# Altium footprint library MolsonPCB.PcbLib: 42 footprints (part 3 of 3)
Each footprint in its own frame and in the unit in brackets; x right, y up, seen from the top. Pads: shape width x height; smd on the part's side, far side on the other; paste and mask are expansions set on the pad; w line width, h text height; cw(c..) or ccw(c..) is an arc to the next point about the centre after c.
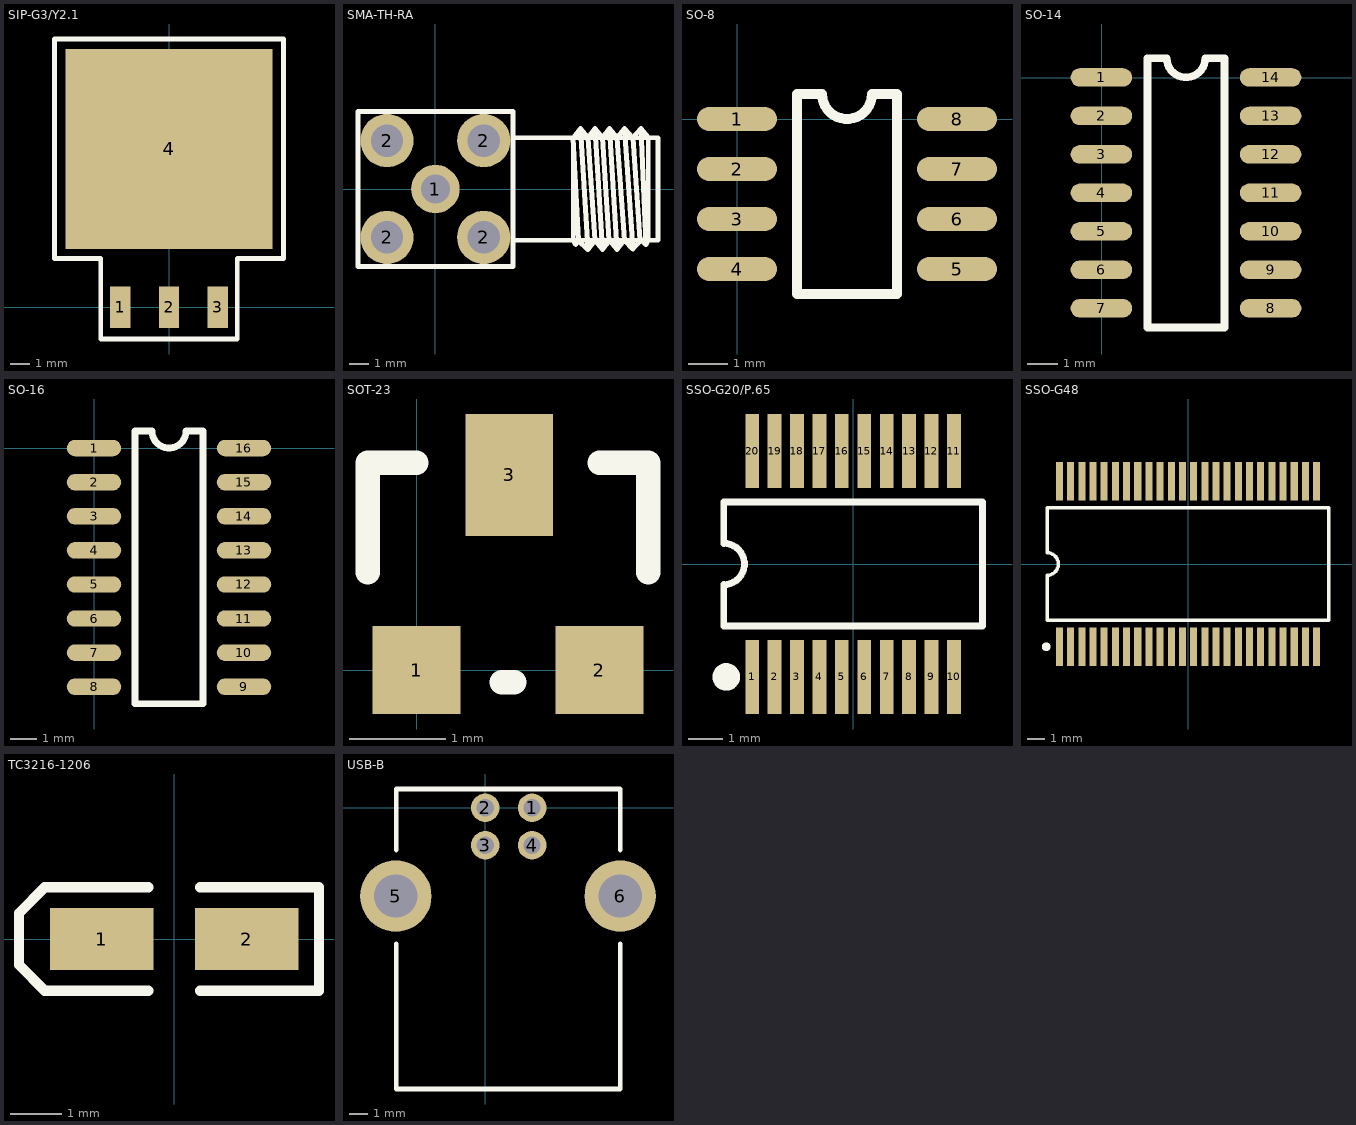
[diagram p2: the footprints below, top view; thin cyan lines are the x and y axes]

## SIP-G3/Y2.1 [mil]
pads (4):
  rect 42x85 smd: 1(-100,0) 2(0,0) 3(100,0)
  rect 425x410 smd: 4(0,325)
Top Overlay:
  lines w10: -235,100 -140,100 -140,-65 140,-65 140,100 235,100 235,550 -235,550 -235,100

## SMA-TH-RA [mil]
pads (5):
  round 100 hole 60: 1(0,0)
  round 110 hole 67: 2(-100,-100) 2(-100,100) 2(100,-100) 2(100,100)
Top Overlay:
  lines w10: 160,-106 460,-106 460,106 160,106 ; 284,106 296,-106 ; 359,-106 345,106 ; 391,-106 375,106 ; 423,-106 408,106 ; 300,125 315,106 ; 300,125 285,106 285,-106 290,-115 294,-106 315,-125 ; 300,125 315,-125 ; 315,-125 330,-106 ; 315,106 330,125 ; 315,106 330,-106 ; 330,-106 345,-125 ; 330,125 345,106 ; 330,125 345,-125 ; 345,-125 360,-106 375,-125 ; 345,106 360,125 ; 360,125 375,106 ; 360,125 375,-125 ; 375,-125 390,-106 408,-124 ; 375,106 391,125 ; 391,125 408,106 ; 391,125 408,-124 ; 408,-124 425,-106 435,-115 ; 408,106 425,125 ; 425,125 440,106 440,-106 435,-115 ; 425,125 435,-115 ; -160,-160 -160,160 160,160 160,-160 -160,-160

## SO-8 [mil]
pads (8):
  oval 80x24 smd: 1(0,0) 2(0,-50) 3(0,-100) 4(0,-150) 5(220,-150) 6(220,-100) 7(220,-50) 8(220,0)
Top Overlay:
  lines w10: 60,-175 60,25 85,25 ccw(c110,25) 135,25 160,25 160,-175 60,-175

## SO-14 [mil]
pads (14):
  oval 80x24 smd: 1(-0.32,0.14) 2(-0.32,-49.86) 3(-0.32,-99.86) 4(-0.32,-149.86) 5(-0.32,-199.86) 6(-0.32,-249.86) 7(-0.32,-299.86) 8(219.68,-299.86) 9(219.68,-249.86) 10(219.68,-199.86) 11(219.68,-149.86) 12(219.68,-99.86) 13(219.68,-49.86) 14(219.68,0.14)
Top Overlay:
  lines w10: 59.68,-324.86 159.68,-324.86 159.68,25.14 134.68,25.14 cw(c109.68,25.14) 84.68,25.14 59.68,25.14 59.68,-324.86

## SO-16 [mil]
pads (16):
  oval 80x24 smd: 1(0,0) 2(0,-50) 3(0,-100) 4(0,-150) 5(0,-200) 6(0,-250) 7(0,-300) 8(0,-350) 9(220,-350) 10(220,-300) 11(220,-250) 12(220,-200) 13(220,-150) 14(220,-100) 15(220,-50) 16(220,0)
Top Overlay:
  lines w10: 60,-375 160,-375 160,25 135,25 cw(c110,25) 85,25 60,25 60,-375

## SOT-23 [mil]
pads (3):
  rect 36x36 smd: 1(0,0) 2(75,0)
  rect 36x50 smd: 3(38,80)
Top Overlay:
  lines w10: -20,40 -20,85 0,85 ; 35,-5 40,-5 ; 75,85 95,85 95,40

## SSO-G20/P.65 [mm]
pads (20):
  rect 0.4x2.15 smd: 1(-2.925,-3.275) 2(-2.275,-3.275) 3(-1.625,-3.275) 4(-0.975,-3.275) 5(-0.325,-3.275) 6(0.325,-3.275) 7(0.975,-3.275) 8(1.625,-3.275) 9(2.275,-3.275) 10(2.925,-3.275) 11(2.925,3.275) 12(2.275,3.275) 13(1.625,3.275) 14(0.975,3.275) 15(0.325,3.275) 16(-0.325,3.275) 17(-0.975,3.275) 18(-1.625,3.275) 19(-2.275,3.275) 20(-2.925,3.275)
Top Overlay:
  circle w0.548: c-3.675,-3.275 r0.125
  lines w0.2: -3.75,-1.8 3.75,-1.8 3.75,1.8 -3.75,1.8 -3.75,0.6 cw(c-3.75,0) -3.75,-0.6 -3.75,-1.8

## SSO-G48 [mm]
pads (48):
  rect 0.4x2.2 smd: 1(-7.302,-4.7) 2(-6.667,-4.7) 3(-6.032,-4.7) 4(-5.397,-4.7) 5(-4.763,-4.7) 6(-4.127,-4.7) 7(-3.492,-4.7) 8(-2.857,-4.7) 9(-2.222,-4.7) 10(-1.587,-4.7) 11(-0.953,-4.7) 12(-0.318,-4.7) 13(0.318,-4.7) 14(0.953,-4.7) 15(1.587,-4.7) 16(2.222,-4.7) 17(2.857,-4.7) 18(3.492,-4.7) 19(4.127,-4.7) 20(4.763,-4.7) 21(5.397,-4.7) 22(6.032,-4.7) 23(6.667,-4.7) 24(7.302,-4.7) 25(7.302,4.7) 26(6.667,4.7) 27(6.032,4.7) 28(5.397,4.7) 29(4.763,4.7) 30(4.127,4.7) 31(3.492,4.7) 32(2.857,4.7) 33(2.222,4.7) 34(1.587,4.7) 35(0.953,4.7) 36(0.318,4.7) 37(-0.318,4.7) 38(-0.953,4.7) 39(-1.587,4.7) 40(-2.222,4.7) 41(-2.857,4.7) 42(-3.492,4.7) 43(-4.127,4.7) 44(-4.763,4.7) 45(-5.397,4.7) 46(-6.032,4.7) 47(-6.667,4.7) 48(-7.302,4.7)
Top Overlay:
  circle w0.25: c-8.053,-4.7 r0.125
  lines w0.2: -8,-3.2 8,-3.2 8,3.2 -8,3.2 -8,0.635 cw(c-8,0) -8,-0.635 -8,-3.2

## TC3216-1206 [mm]
pads (2):
  rect 2x1.2 smd: 1(-1.4,0) 2(1.4,0)
Top Overlay:
  lines w0.2: -0.5,-1 -2.5,-1 -3,-0.5 -3,0.5 -2.5,1 -0.5,1 ; 0.5,-1 2.8,-1 2.8,1 0.5,1

## USB-B [mil]
pads (6):
  round 60 hole 36: 1(98.42,0) 2(0,0) 3(0,-78.74) 4(98.42,-78.74)
  round 150 hole 91: 5(-187.79,-185.43) 6(283.46,-185.43)
Top Overlay:
  lines w9.84: -187.01,-285.43 -187.01,-590.55 283.46,-590.55 283.46,-285.43 ; -187.01,-88.58 -187.01,39.37 283.46,39.37 283.46,-88.58